# Altium footprint library Alim.PcbLib: 11 footprints
Each footprint in its own frame and in the unit in brackets; x right, y up, seen from the top. Pads: shape width x height; smd on the part's side, far side on the other; paste and mask are expansions set on the pad; w line width, h text height; cw(c..) or ccw(c..) is an arc to the next point about the centre after c.
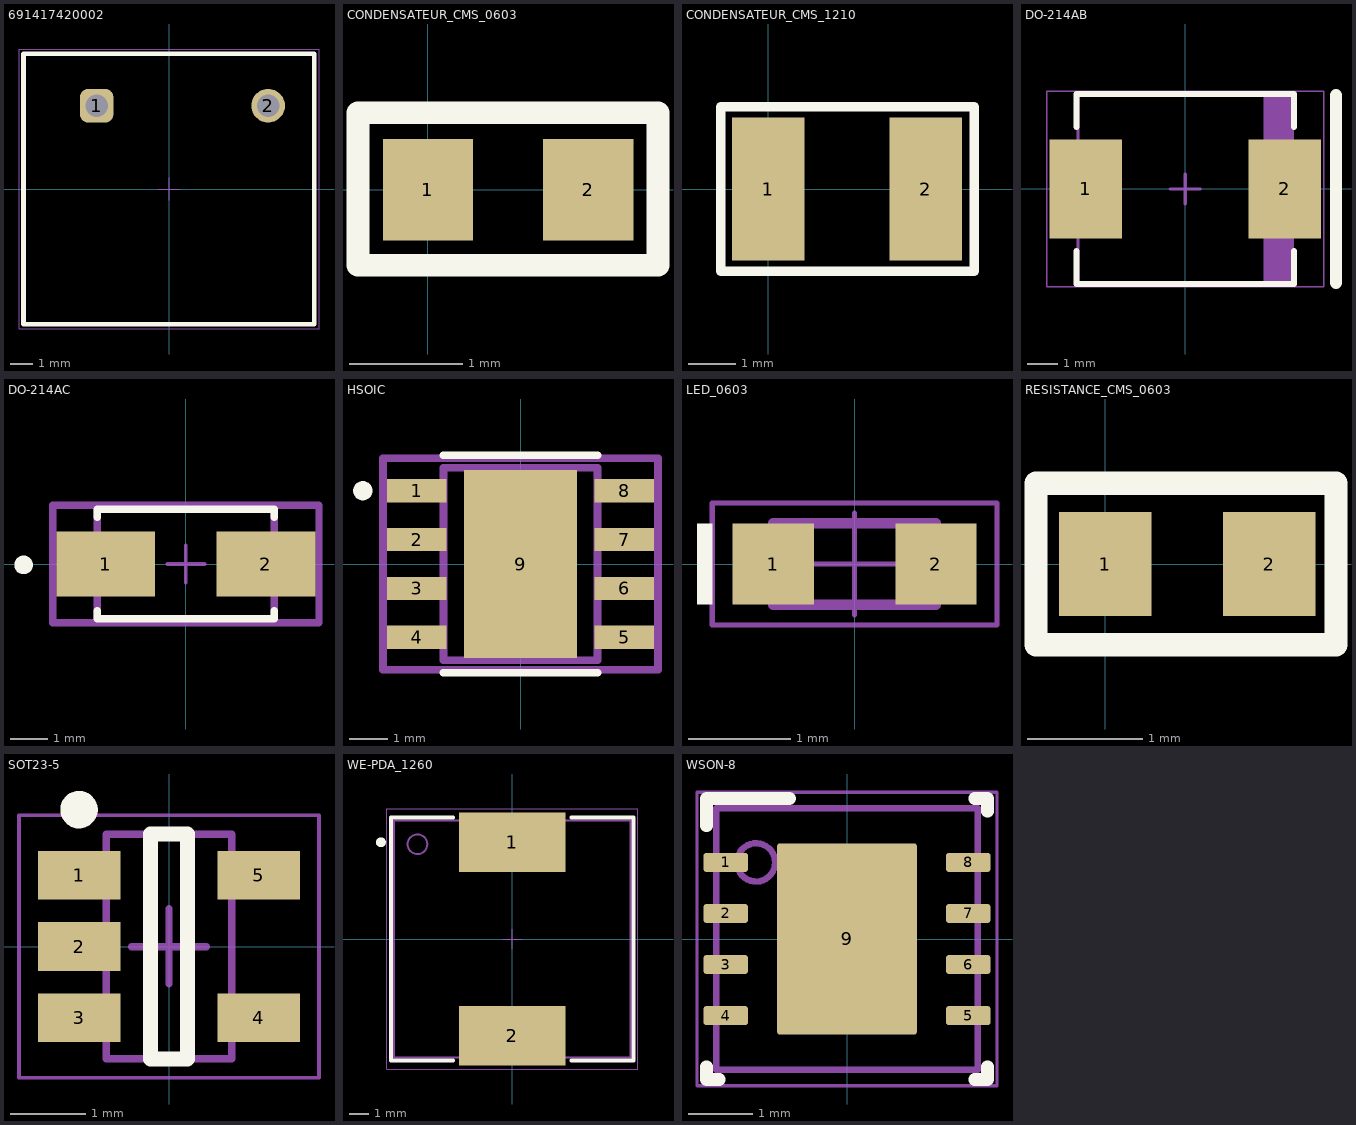
[diagram p0: the footprints below, top view; thin cyan lines are the x and y axes]

## 691417420002 [mm] "7.62 mm 45deg Entry Screwless, 2p"
height 13.2
pads (2):
  rrect50% 1.5x1.5 hole 1: 1(-3.215,3.7)
  round 1.5 hole 1: 2(4.405,3.7)
Top Overlay:
  lines w0.2: -6.465,-6 -6.465,6 6.465,6 6.465,-6 -6.465,-6
Top 3D Body:
  lines w0.1: -6.465,-6 -6.465,6 6.465,6 6.465,-6 -6.465,-6
Top Courtyard:
  lines w0.05: -6.665,-6.2 -6.665,6.2 6.665,6.2 6.665,-6.2 -6.665,-6.2
Top Designator:
  text ".Designator" at -7.498,-0.5 h1.5
Top Component Outline:
  lines w0.1: -6.465,-6 6.465,-6 6.465,6 -6.465,6 -6.465,-6
Top Component Center:
  lines w0.05: -0.5,0 0.5,0 ; 0,-0.5 0,0.5

## CONDENSATEUR_CMS_0603 [mm] "CONDENSATEUR CMS 0603 ; DIMENSIONS : 1.6mm x 0.86mm"
height 0.35
pads (2):
  rect 0.8x0.9 smd: 1(0,0) 2(1.422,0)
Top Overlay:
  lines w0.2: -0.62,-0.67 -0.62,0.68 2.04,0.68 2.04,-0.67 -0.62,-0.67

## CONDENSATEUR_CMS_1210 [mm] "CONDENSATEUR CMS 1210 ; DIMENSIONS : 3.2mm x 2.5mm"
height 1
pads (2):
  rect 1.524x3 smd: 1(0,0) 2(3.3,0)
Top Overlay:
  lines w0.2: -1,-1.73 -1,1.73 4.32,1.73 4.32,-1.73 -1,-1.73

## DO-214AB [mm] "Molded Diode, 2-Leads, Body 7.11x6.22mm"
height 2.62
pads (2):
  rect 2.4x3.3 smd: 1(-3.3,0) 2(3.3,0)
Top Overlay:
  lines w0.2: -3.6,-2.05 -3.6,-3.15 3.6,-3.15 3.6,-2.05 ; -3.6,2.05 -3.6,3.15 3.6,3.15 3.6,2.05
  lines w0.4: 5,-3.11 5,3.11
Mechanical 13:
  rectangle: 2.599,-3.11 3.555,3.11
  lines w0.1: -3.555,-3.11 3.555,-3.11 3.555,3.11 -3.555,3.11 -3.555,-3.11
Mechanical 15:
  lines w0.05: -4.6,-3.25 4.6,-3.25 4.6,3.25 -4.6,3.25 -4.6,-3.25
  lines w0.1: -0.5,0 0.5,0 ; 0,-0.5 0,0.5

## DO-214AC [mm] "SMD Doide"
pads (2):
  rect 2.65x1.75 smd paste+0 mask+0: 1(-2.15,0) 2(2.15,0)
Top Overlay:
  circle w0.25: c-4.35,-0.025 r0.125
  lines w0.2: -2.375,-1.25 -2.375,-1.475 2.375,-1.475 2.375,-1.25 ; -2.375,1.25 -2.375,1.475 2.375,1.475 2.375,1.25
Top 3D Body:
  lines w0.2: -2.375,-1.475 -2.375,1.475 2.375,1.475 2.375,-1.475 -2.375,-1.475
Top Courtyard:
  lines w0.2: -3.575,-1.575 -3.575,1.575 3.575,1.575 3.575,-1.575 -3.575,-1.575
Top Assembly:
  lines w0.2: -3.575,-1.575 -3.575,1.575 3.575,1.575 3.575,-1.575 -3.575,-1.575
  text ".Designator" at 0,0.187 h1
Top Component Center:
  lines w0.1: -0.5,0 0.5,0 ; 0,-0.5 0,0.5

## HSOIC [mm] "SOIC with power pad"
pads (9):
  rect 1.55x0.6 smd paste+0 mask+0: 1(-2.7,1.905) 2(-2.7,0.635) 3(-2.7,-0.635) 4(-2.7,-1.905) 5(2.7,-1.905) 6(2.7,-0.635) 7(2.7,0.635) 8(2.7,1.905)
  rect 2.95x4.9 smd paste-1000 mask-1000: 9(0,0)
Top Overlay:
  circle w0.25: c-4.1,1.905 r0.125
  lines w0.2: -2,-2.825 2,-2.825 ; -2,2.825 2,2.825
Top Paste:
  rectangle: -1.3,-1.55 1.3,1.55
Top Solder:
  rectangle: -1.3,-1.55 1.3,1.55
Top 3D Body:
  lines w0.2: -2,-2.5 2,-2.5 2,2.5 -2,2.5 -2,-2.5
Top Courtyard:
  lines w0.2: -3.575,-2.75 3.575,-2.75 3.575,2.75 -3.575,2.75 -3.575,-2.75
Top Assembly:
  lines w0.2: -3.575,-2.75 3.575,-2.75 3.575,2.75 -3.575,2.75 -3.575,-2.75
  text ".Designator" at 0,0.187 h1

## LED_0603 [mm] "SMD Mono-color Chip LED, body 1.6x0.8mm"
height 0.7
pads (2):
  rect 0.8x0.8 smd: 1(-0.8,0) 2(0.8,0)
Top Overlay:
  rectangle: -1.55,-0.4 -1.4,0.4
Top Courtyard:
  lines w0.05: -0.5,0 0.5,0 ; 0,-0.5 0,0.5 ; -1.4,-0.6 -1.4,0.6 1.4,0.6 1.4,-0.6 -1.4,-0.6
Top Designator:
  text ".Designator" at -2.499,-0.167 h0.5
Top Component Outline:
  rectangle: -0.8,-0.4 -0.5,0.4
  lines w0.1: -0.8,-0.4 -0.8,0.4 0.8,0.4 0.8,-0.4 -0.8,-0.4

## RESISTANCE_CMS_0603 [mm] "RESISTANCE CMS 0603 ; DIMENSIONS : 1.6mm x 0.8mm"
height 0.5
pads (2):
  rect 0.8x0.9 smd: 1(0,0) 2(1.422,0)
Top Overlay:
  lines w0.2: -0.6,-0.7 2,-0.7 2,0.7 -0.6,0.7 -0.6,-0.7

## SOT23-5 [mm] "SOT23, 5-Leads, Body 2.9x1.6mm, Pitch 0.95mm, Lead Span 2.8mm, IPC Medium Density"
height 1.19
pads (5):
  rect 1.1x0.65 smd: 1(-1.2,0.95) 2(-1.2,0) 3(-1.2,-0.95) 4(1.2,-0.95) 5(1.2,0.95)
Top Overlay:
  circle w0.25: c-1.2,1.825 r0.125
  lines w0.2: -0.25,-1.5 0.25,-1.5 0.25,1.5 -0.25,1.5 -0.25,-1.5
Mechanical 13:
  lines w0.1: -0.835,-1.495 -0.835,1.495 0.835,1.495 0.835,-1.495 -0.835,-1.495
Mechanical 15:
  lines w0.05: -2,-1.75 -2,1.75 2,1.75 2,-1.75 -2,-1.75
  lines w0.1: -0.5,0 0.5,0 ; 0,-0.5 0,0.5

## WE-PDA_1260 [mm] "SMD Shielded Power Inductor, 2-leads, body 12x12mm"
height 6
pads (2):
  rect 5.4x3 smd: 1(0,4.9) 2(0,-4.9)
Top Overlay:
  circle w0.25: c-6.65,4.9 r0.125
  lines w0.2: -3,-6.15 -6.15,-6.15 -6.15,6.15 -3,6.15 ; 3,-6.15 6.15,-6.15 6.15,6.15 3,6.15
Top 3D Body:
  circle w0.1: c-4.8,4.8 r0.5
  lines w0.1: -6,-6 6,-6 6,6 -6,6 -6,-6
Top Courtyard:
  lines w0.05: -6.35,-6.6 -6.35,6.6 6.35,6.6 6.35,-6.6 -6.35,-6.6
Top Designator:
  text ".Designator" at -7.498,-0.5 h1.5
Top Component Outline:
  circle w0.1: c-4.8,4.8 r0.5
  lines w0.1: -6,-6 -6,6 6,6 6,-6 -6,-6
Top Component Center:
  lines w0.05: -0.5,0 0.5,0 ; 0,-0.5 0,0.5

## WSON-8 [mm] "SON, 8-Leads, Body 4x4mm, Pitch 0.8mm, Thermal Pad 3x2.2mm, TI Recommended"
height 0.8
pads (9):
  rrect33% 0.7x0.3 smd: 1(-1.9,1.2) 2(-1.9,0.4) 3(-1.9,-0.4) 4(-1.9,-1.2) 5(1.9,-1.2) 6(1.9,-0.4) 7(1.9,0.4) 8(1.9,1.2)
  rrect5% 2.2x3 smd paste-1.1: 9(0,0)
Top Overlay:
  lines w0.2: -2.2,-2 -2.2,-2.2 -2,-2.2 ; -2.2,1.775 -2.2,2.2 -0.9,2.2 ; 2,-2.2 2.2,-2.2 2.2,-2 ; 2,2.2 2.2,2.2 2.2,2
Top Paste:
  rectangle: 0.1,-1.41 1.081,-0.1
  region: -0.1,-0.1 -1.081,-0.1 -1.081,-1.41 -0.1,-1.41
  region: -0.1,1.41 -1.081,1.41 -1.081,0.1 -0.1,0.1
  rectangle: 0.1,0.1 1.081,1.41
Mechanical 1:
  text ".Designator" at -1.651,-1.016 h0.76
Mechanical 13:
  circle w0.1: c-1.425,1.2 r0.3
  lines w0.1: -2.05,-2.05 -2.05,2.05 2.05,2.05 2.05,-2.05 -2.05,-2.05
Mechanical 15:
  lines w0.05: -2.35,-2.3 2.35,-2.3 2.35,2.3 -2.35,2.3 -2.35,-2.3
  lines w0.1: -0.5,0 0.5,0 ; 0,-0.5 0,0.5